# EAGLE library part HEADER_2X6 (library rgb_cube)
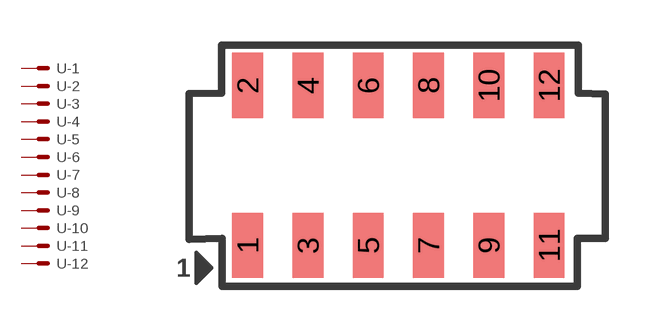
[diagram p75: symbol with the pads of HEADER_2MM_2X6_REVERSE; footprint HEADER_2MM_2X6_REVERSE]

Designator prefix -; gates -1=K -2=K -3=K -4=K -5=K -6=K -7=K -8=K -9=K -10=K -11=K -12=K

## HEADER_2X6  [HEADER_2MM_2X6_REVERSE]
1  -1:S  pas
2  -2:S  pas
3  -3:S  pas
4  -4:S  pas
5  -5:S  pas
6  -6:S  pas
7  -7:S  pas
8  -8:S  pas
9  -9:S  pas
10  -10:S  pas
11  -11:S  pas
12  -12:S  pas

## Footprint HEADER_2MM_2X6_REVERSE (pad centres in mm)
smd 1.02 x 2.16: 1 -4.983,-2.655; 2 -4.983,2.655; 3 -2.983,-2.655; 4 -2.983,2.655; 5 -0.983,-2.655; 6 -0.983,2.655; 7 1.017,-2.655; 8 1.017,2.655; 9 3.017,-2.655; 10 3.017,2.655; 11 5.017,-2.655; 12 5.017,2.655